# Altium schematic symbol library Basic.SchLib: 17 symbols
Pins are listed as number, name and electrical type; pins without a type are passive.

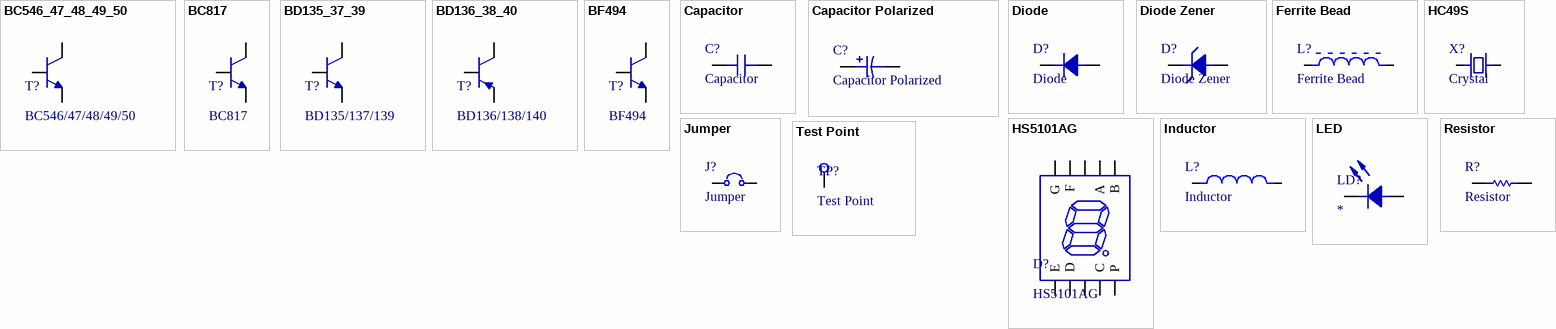
[diagram p0: symbols BC546_47_48_49_50 to Test Point]

## BC546_47_48_49_50
designator T?, comment BC546/47/48/49/50
NPN Epitaxial Silicon Transistor
footprint TO-92
pins: 1, 2, 3

## BC817
designator T?
NPN Transistor - 45VCE 500mA IC
footprint SOT-323
pins: 1, 2, 3

## BD135_37_39
designator T?, comment BD135/137/139
NPN Epitaxial Silicon Transistor
footprint TO-126
pins: 1, 2, 3

## BD136_38_40
designator T?, comment BD136/138/140
PNP Epitaxial Silicon Transistor
footprint TO-126
pins: 1, 2, 3

## BF494
designator T?
NPN Medium Frequency Transistors
footprint TO-92
pins: 1, 2, 3

## Capacitor
designator C?
footprint 0402
footprint 0603
footprint 0805
footprint 1206
footprint 1812
footprint 1808
footprint 2917
footprint DiskCapacitor
pins: 1, 2

## Capacitor Polarized
designator C?
footprint 1206 Polarized
footprint 0805 Polarized
footprint 0603 Polarized
footprint 0402 Polarized
footprint 1812 Polarized
footprint 1808 Polarized
footprint 2917 Polarized
pins: 1, 2

## Diode
designator D?
footprint 1206 Semiconductor
footprint 0805 Semiconductor
footprint 0603 Semiconductor
footprint 0402 Semiconductor
footprint 1812 Semiconductor
footprint 1808 Semiconductor
footprint 2917 Semiconductor
footprint DO-41
footprint DO-15
pins: 1, 2

## Diode Zener
designator D?
footprint 1206 Semiconductor
footprint 0805 Semiconductor
footprint 0603 Semiconductor
footprint 0402 Semiconductor
footprint 1812 Semiconductor
footprint 1808 Semiconductor
footprint 2917 Semiconductor
footprint DO-41
footprint DO-15
pins: 1, 2

## Ferrite Bead
designator L?
footprint 1206
footprint 0805
footprint 0603
footprint 0402
footprint 1812
footprint 1808
footprint 2917
pins: 1, 2

## HC49S
designator X?, comment Crystal
Crystal HC49S
footprint HC49S
pins: 1, 2

## HS5101AG
designator D?
Display 7-Segments Cathodo Common
footprint HS5101AG
pins: 1 E, 2 D, 3 GND2 (power), 4 C, 5 P, 6 B, 7 A, 8 GND1 (power), 9 F, 10 G

## Inductor
designator L?
footprint 1206
footprint 0805
footprint 0603
footprint 0402
footprint 1812
footprint 1808
footprint 2917
pins: 1, 2

## Jumper
designator J?
footprint Jumper Strap
pins: 1, 2

## LED
designator LD?
LED
footprint 1206 Semiconductor
footprint 0805 Semiconductor
footprint 0603 Semiconductor
footprint 0402 Semiconductor
footprint 1812 Semiconductor
footprint 1808 Semiconductor
footprint 2917 Semiconductor
pins: 1, 2

## Resistor
designator R?
footprint 0402
footprint 0603
footprint 0805
footprint 1206
footprint 1812
footprint 1808
footprint 2917
footprint CR12
footprint CR25
footprint CR50
footprint CR100
footprint CR200
footprint CR500
pins: 1, 2

## Test Point
designator TP?
footprint Test Point Hole
footprint Test Point SMD
footprint Test Point Trace
footprint TEST POINT SCREW
pins: 1 "Supply input for 5 V internal linear regulator"